# EAGLE library part STM32L443CC? (library STM32)
MCU 32BIT 256KB FLASH 48-Pin | Datasheet <http://www.st.com/content/ccc/resource/technical/document/datasheet/01/76/9c/b5/c7/d9/40/6c/DM00254865.pdf/files/DM00254865.pdf/jcr:content/translations/en.DM00254865.pdf> STM32L443CC <http://www.st.com/content/ccc/resource/technical/document/datasheet/01/76/9c/b5/c7/d9/40/6c/DM00254865.pdf/files/DM00254865.pdf/jcr:content/translations/en.DM00254865.pdf> - Ultra-low-power ARM ® Cortex ® -M4 32-bit MCU+FPU, 100DMIPS, 256KB Flash, 64KB SRAM, USB FS, LCD, analog, audio, AES
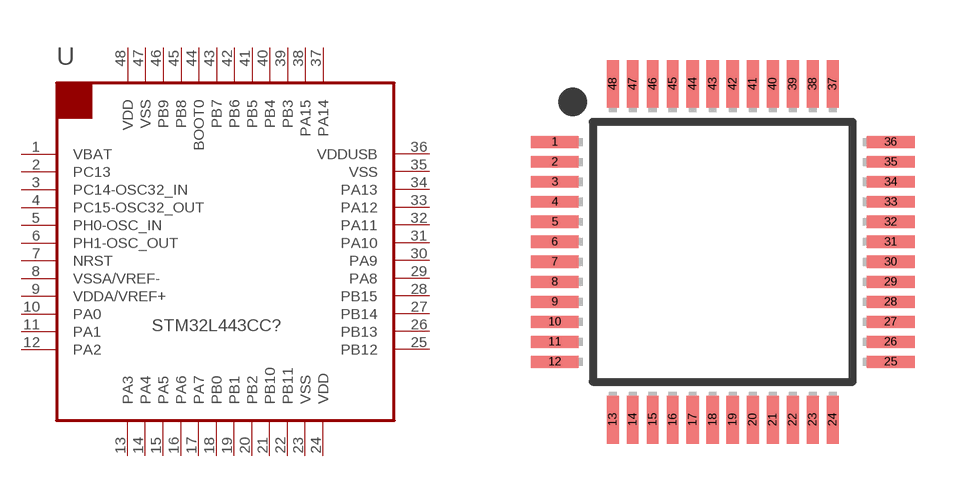
[diagram p7: symbol with the pads of TQFP-48; footprint TQFP-48]

Designator prefix U

## STM32L443CCT3 (MEM: 256KB; MFPN: STM32L443CCT3; TEMP: -40 to 125 °C), STM32L443CCT6 (MEM: 256KB; MFPN: STM32L443CCT6; TEMP: -40 to 85 °C)  [TQFP-48]
1  VBAT  pwr
2  PC13
3  PC14-OSC32_IN
4  PC15-OSC32_OUT
5  PH0-OSC_IN
6  PH1-OSC_OUT
7  NRST
8  VSSA/VREF-  pwr
9  VDDA/VREF+  pwr
10  PA0
11  PA1
12  PA2
13  PA3
14  PA4
15  PA5
16  PA6
17  PA7
18  PB0
19  PB1
20  PB2
21  PB10
22  PB11
23  VSS  pwr
24  VDD  pwr
25  PB12
26  PB13
27  PB14
28  PB15
29  PA8
30  PA9
31  PA10
32  PA11
33  PA12
34  PA13
35  VSS  pwr
36  VDDUSB  pwr
37  PA14
38  PA15
39  PB3
40  PB4
41  PB5
42  PB6
43  PB7
44  BOOT0
45  PB8
46  PB9
47  VSS  pwr
48  VDD  pwr

## Footprint TQFP-48 (pad centres in mm)
TQFP-48 Auto generated by make-symbol-device-package-bsdl.ulp Rev. 43 Package Settings: L/L1: 9 D/D1: 7 m:0.6 b:0.2 e:0.5 w:0.3 x:1.2 y:0.3 r:0
smd 1.2 x 0.3: 1 -4.2,2.75; 2 -4.2,2.25; 3 -4.2,1.75; 4 -4.2,1.25; 5 -4.2,0.75; 6 -4.2,0.25; 7 -4.2,-0.25; 8 -4.2,-0.75; 9 -4.2,-1.25; 10 -4.2,-1.75; 11 -4.2,-2.25; 12 -4.2,-2.75; 25 4.2,-2.75; 26 4.2,-2.25; 27 4.2,-1.75; 28 4.2,-1.25; 29 4.2,-0.75; 30 4.2,-0.25; 31 4.2,0.25; 32 4.2,0.75; 33 4.2,1.25; 34 4.2,1.75; 35 4.2,2.25; 36 4.2,2.75
smd 0.3 x 1.2: 13 -2.75,-4.2; 14 -2.25,-4.2; 15 -1.75,-4.2; 16 -1.25,-4.2; 17 -0.75,-4.2; 18 -0.25,-4.2; 19 0.25,-4.2; 20 0.75,-4.2; 21 1.25,-4.2; 22 1.75,-4.2; 23 2.25,-4.2; 24 2.75,-4.2; 37 2.75,4.2; 38 2.25,4.2; 39 1.75,4.2; 40 1.25,4.2; 41 0.75,4.2; 42 0.25,4.2; 43 -0.25,4.2; 44 -0.75,4.2; 45 -1.25,4.2; 46 -1.75,4.2; 47 -2.25,4.2; 48 -2.75,4.2